# EAGLE library part VREG_SWITCHING_LM2678T_5A/VADJ (library PiB_ic_power)
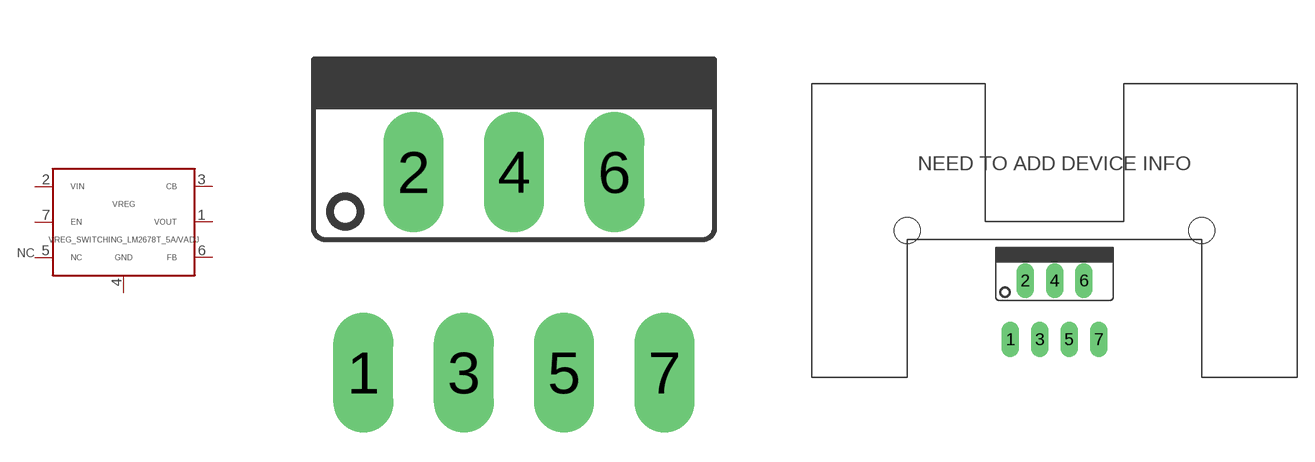
[diagram p0: symbol with the pads of TO-220-7; footprints TO-220-7, TO-220-7_HEATSINK-LG]

Designator prefix VREG

## VREG_SWITCHING_LM2678T_5A/VADJ5A/V-ADJ (CREATOR: MrSwirlyEyes; DATASHEET: http://www.ti.com/lit/ds/symlink/lm2678.pdf; DIST: Digikey; DISTLINK: https://www.digikey.com/products/en?keywords=LM2678T-ADJ%2FNOPB-ND; DISTPN: LM2678T-ADJ/NOPB-ND; MFR: Texas Instruments; MPN: LM2678T-ADJ/NOPB; TESTED: NO; VALUE: LM2678T-5A/ADJ)  [TO-220-7]
1  VOUT  pwr
2  VIN  pwr
3  CB  sup
4  GND  pwr
5  NC  nc
6  FB  sup
7  EN

## VREG_SWITCHING_LM2678T_5A/VADJ5A/5V (CREATOR: MrSwirlyEyes; DATASHEET: http://www.ti.com/lit/ds/symlink/lm2678.pdf; DIST: Digikey; DISTLINK: https://www.digikey.com/products/en?keywords=LM2678T-5.0%2FNOPB-ND; DISTPN: LM2678T-5.0/NOPB-ND; MFR: Texas Instruments; MPN: LM2678T-5.0/NOPB; TESTED: NO; VALUE: LM2678T-5A/5V)  [TO-220-7]
Pads as for TO-220-7

## VREG_SWITCHING_LM2678T_5A/VADJ5A/V-ADJ_HEATSINK (CREATOR: MrSwirlyEyes; TESTED: NO; VALUE: 5A/V-ADJ)  [TO-220-7_HEATSINK-LG]
Pads as for TO-220-7

## Footprint TO-220-7 (pad centres in mm)
drill 1.016 long: 1 -3.81,-5.08; 2 -2.54,0; 3 -1.27,-5.08; 4 0,0; 5 1.27,-5.08; 6 2.54,0; 7 3.81,-5.08

## Footprint TO-220-7_HEATSINK-LG (pad centres in mm)
drill 1.016 long: 1 -3.81,-5.08; 2 -2.54,0; 3 -1.27,-5.08; 4 0,0; 5 1.27,-5.08; 6 2.54,0; 7 3.81,-5.08
hole 2.25 at -12.7,4.32
hole 2.25 at 12.7,4.32